# EAGLE library part GRPB062VWQP (library con-sullins-grpb)
HEADER
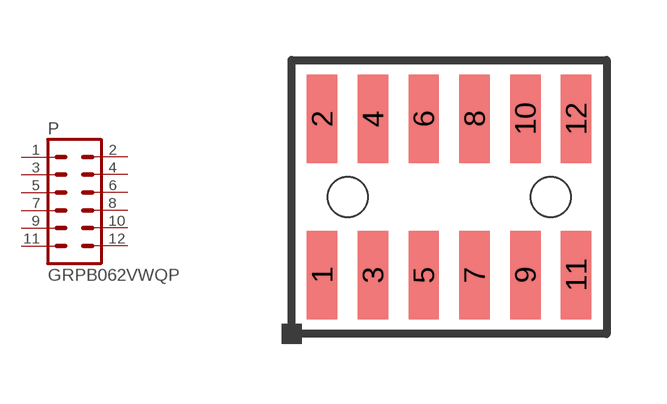
[diagram p3: symbol with the pads of GRPB062VWQP; footprint GRPB062VWQP]

Designator prefix P

## GRPB062VWQP  [GRPB062VWQP]
1  1  pas
2  2  pas
3  3  pas
4  4  pas
5  5  pas
6  6  pas
7  7  pas
8  8  pas
9  9  pas
10  10  pas
11  11  pas
12  12  pas

## Footprint GRPB062VWQP (pad centres in mm)
HEADER
smd 0.762 x 2.21: 1 -3.175,-1.956; 2 -3.175,1.956; 3 -1.905,-1.956; 4 -1.905,1.956; 5 -0.635,-1.956; 6 -0.635,1.956; 7 0.635,-1.956; 8 0.635,1.956; 9 1.905,-1.956; 10 1.905,1.956; 11 3.175,-1.956; 12 3.175,1.956
hole 1 at -2.54,0
hole 1 at 2.54,0